# Altium integrated library STM8S005C6T6.IntLib: 2 symbols
Pins are listed as number, name and electrical type; pins without a type are passive.

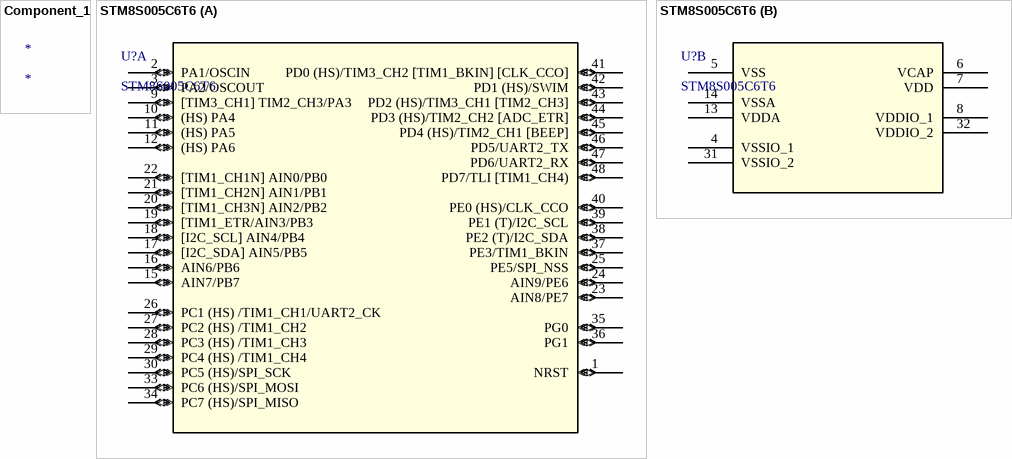
[diagram p0: symbols Component_1 to STM8S005C6T6]

## Component_1
designator *

## STM8S005C6T6
designator U?
No Description Available; Mfr_Name: STMicroelectronics; Copyright: Copyright (C) 2022 Ultra Librarian. All rights reserved.; Manufacturer_Part_Number: STM8S005C6T6; RefDes: RefDes; Type: Type
footprint LQFP48-7X7mm
part A pins: 1 NRST (io), 2 PA1/OSCIN (io), 3 PA2/OSCOUT (io), 9 [TIM3_CH1] TIM2_CH3/PA3 (io), 10 (HS) PA4 (io), 11 (HS) PA5 (io), 12 (HS) PA6 (io), 15 AIN7/PB7 (io), 16 AIN6/PB6 (io), 17 [I2C_SDA] AIN5/PB5 (io), 18 [I2C_SCL] AIN4/PB4 (io), 19 [TIM1_ETR/AIN3/PB3 (io), 20 [TIM1_CH3N] AIN2/PB2 (io), 21 [TIM1_CH2N] AIN1/PB1 (io), 22 [TIM1_CH1N] AIN0/PB0 (io), 23 AIN8/PE7 (io), 24 AIN9/PE6 (io), 25 PE5/SPI_NSS (io), 26 PC1 (HS) /TIM1_CH1/UART2_CK (io), 27 PC2 (HS) /TIM1_CH2 (io), 28 PC3 (HS) /TIM1_CH3 (io), 29 PC4 (HS) /TIM1_CH4 (io), 30 PC5 (HS)/SPI_SCK (io), 33 PC6 (HS)/SPI_MOSI (io), 34 PC7 (HS)/SPI_MISO (io), 35 PG0 (io), 36 PG1 (io), 37 PE3/TIM1_BKIN (io), 38 PE2 (T)/I2C_SDA (io), 39 PE1 (T)/I2C_SCL (io), 40 PE0 (HS)/CLK_CCO (io), 41 PD0 (HS)/TIM3_CH2 [TIM1_BKIN] [CLK_CCO] (io), 42 PD1 (HS)/SWIM (io), 43 PD2 (HS)/TIM3_CH1 [TIM2_CH3] (io), 44 PD3 (HS)/TIM2_CH2 [ADC_ETR] (io), 45 PD4 (HS)/TIM2_CH1 [BEEP] (io), 46 PD5/UART2_TX (io), 47 PD6/UART2_RX (io), 48 PD7/TLI [TIM1_CH4) (io)
part B pins: 4 VSSIO_1 (power), 5 VSS (power), 6 VCAP (power), 7 VDD (power), 8 VDDIO_1 (power), 13 VDDA (power), 14 VSSA (power), 31 VSSIO_2 (power), 32 VDDIO_2 (power)